# Altium footprint library ADP2504.PcbLib: 2 footprints
Each footprint in its own frame and in the unit in brackets; x right, y up, seen from the top. Pads: shape width x height; smd on the part's side, far side on the other; paste and mask are expansions set on the pad; w line width, h text height; cw(c..) or ccw(c..) is an arc to the next point about the centre after c.
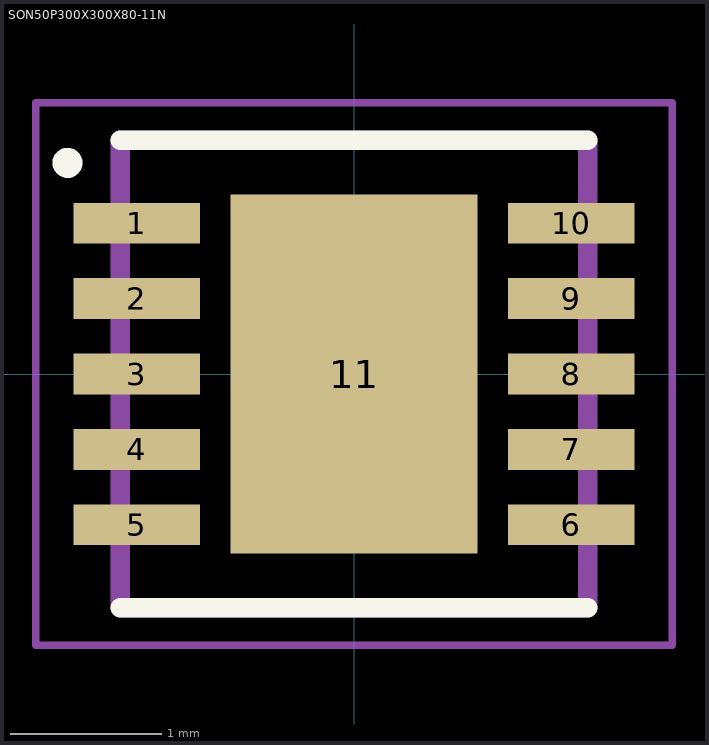
[diagram p0: the footprints below, top view; thin cyan lines are the x and y axes]

## PCBComponent_1 [mm]

## SON50P300X300X80-11N [mm]
pads (11):
  rect 0.84x0.27 smd: 1(-1.44,1) 2(-1.44,0.5) 3(-1.44,0) 4(-1.44,-0.5) 5(-1.44,-1) 6(1.44,-1) 7(1.44,-0.5) 8(1.44,0) 9(1.44,0.5) 10(1.44,1)
  rect 1.64x2.38 smd: 11(0,0)
Top Overlay:
  circle w0.1: c-1.9,1.4 r0.05
  lines w0.127: -1.55,-1.55 1.55,-1.55 ; -1.55,1.55 1.55,1.55
Top Paste:
  region: -0.591,0.753 0.519,0.753 0.519,-0.858 -0.591,-0.858
Mechanical 1:
  lines w0.127: -1.55,-1.55 -1.55,1.55 1.55,1.55 1.55,-1.55 -1.55,-1.55
Mechanical 4:
  lines w0.05: -2.11,-1.8 -2.11,1.8 2.11,1.8 2.11,-1.8 -2.11,-1.8